# Altium schematic symbol library IC-OPAMP.SCHLIB: 40 symbols
Pins are listed as number, name and electrical type; pins without a type are passive.

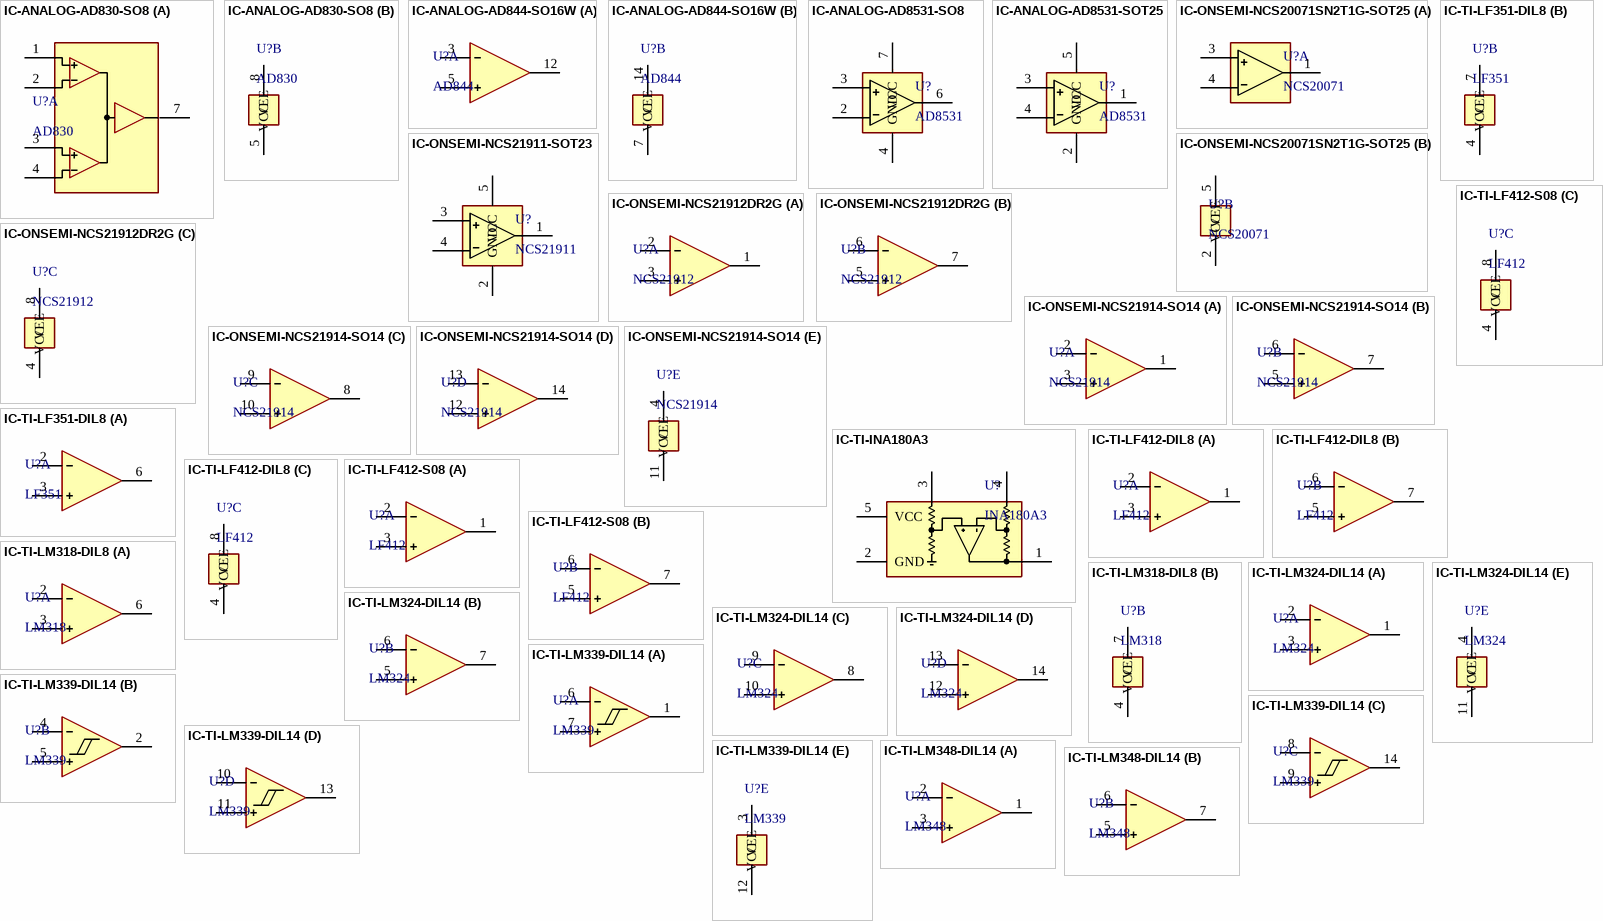
[diagram p0: symbols IC-ANALOG-AD830-SO8 to IC-TI-LM348-DIL14]

## IC-ANALOG-AD830-SO8
designator U?, comment AD830
IC,OPAMP,SINGLE,AD830,SO8; Manufacturer 1: ANALOG DEVICES; Manufacturer Part Number 1: AD844JRZ-16
footprint SO127P600-8N (SO8)
part A pins: 1 -, 2 +, 3 -, 4 +, 7 O
part B pins: 5 VEE, 8 VCC

## IC-ANALOG-AD844-SO16W
designator U?, comment AD844
IC,OPAMP,SINGLE,AD844,SO16W; Manufacturer 1: ANALOG DEVICES; Manufacturer Part Number 1: AD844JRZ-16
footprint SO127P600-8N (SO8)
part A pins: 3 -, 5 +, 12 O
part B pins: 7 VEE, 14 VCC

## IC-ANALOG-AD8531-SO8
designator U?, comment AD8531
footprint SO127P600-8N (SO8)
pins: 2 -, 3 +, 4 GND, 6 OUT, 7 VCC

## IC-ANALOG-AD8531-SOT25
designator U?, comment AD8531
pins: 1 OUT, 2 GND, 3 +, 4 -, 5 VCC

## IC-ONSEMI-NCS20071SN2T1G-SOT25
designator U?, comment NCS20071
IC,OPAMP,SINGLE,ONSEMI,NCS20071SN2T1G,SOT23-5; Manufacturer 1: ONSEMI; Manufacturer Part Number 1: NCS20071SN2T1G
footprint SOT23-5 (SOT23 PACKAGE, 5 PIN (SOT25))
part A pins: 1 OUT, 3 +, 4 -
part B pins: 2 VEE, 5 VCC

## IC-ONSEMI-NCS21911-SOT23
designator U?, comment NCS21911
IC,OPAMP,SINGLE,ZERO DRIFT,NCS21911,SOT23-5
footprint SOT23-5 (SOT23 PACKAGE, 5 PIN (SOT25))
pins: 1 OUT, 2 GND, 3 +, 4 -, 5 VCC

## IC-ONSEMI-NCS21912DR2G
designator U?, comment NCS21912
IC,OPAMP,DUAL,ZERO DRIFT,NCS21912DR2G,SO8; Manufacturer 1: ONSEMI; Manufacturer Part Number 1: NCS21912DR2G
footprint SO127P600-8N (SO8)
part A pins: 1 O, 2 -, 3 +
part B pins: 5 +, 6 -, 7 O
part C pins: 4 VEE, 8 VCC

## IC-ONSEMI-NCS21914-SO14
designator U?, comment NCS21914
IC,OPAMP,QUAD,ZERO DRIFT,NCS21914,SO14; Manufacturer 1: ONSEMI; Manufacturer Part Number 1: NCS21914DR2G
footprint SO127P600-14N (SOIC127P600X175 14N)
part A pins: 1 O, 2 -, 3 +
part B pins: 5 +, 6 -, 7 O
part C pins: 8 O, 9 -, 10 +
part D pins: 12 +, 13 -, 14 O
part E pins: 4 VCC, 11 VEE

## IC-TI-INA180A3
designator U?, comment INA180A3
pins: 1 OUT, 2 GND, 3 INP, 4 INN, 5 VCC

## IC-TI-LF351-DIL8
designator U?, comment LF351
IC,OPAMP,SINGLE,LF351,DIL8
part A pins: 2 -, 3 +, 6 O
part B pins: 4 VEE, 7 VCC

## IC-TI-LF412-DIL8
designator U?, comment LF412
IC,OPAMP JFET,DUAL,LF412,DIL8
part A pins: 1 O, 2 -, 3 +
part B pins: 5 +, 6 -, 7 O
part C pins: 4 VEE, 8 VCC

## IC-TI-LF412-S08
designator U?, comment LF412
IC,OPAMP JFET,DUAL,LF412,SO8
footprint SO127P600-8N (SO8)
part A pins: 1 O, 2 -, 3 +
part B pins: 5 +, 6 -, 7 O
part C pins: 4 VEE, 8 VCC

## IC-TI-LM318-DIL8
designator U?, comment LM318
IC,OPAMP,SINGLE,LM318,DIL8
part A pins: 2 -, 3 +, 6 O
part B pins: 4 VEE, 7 VCC

## IC-TI-LM324-DIL14
designator U?, comment LM324
IC,OPAMP,QUAD,LM324,DIL14
part A pins: 1 O, 2 -, 3 +
part B pins: 5 +, 6 -, 7 O
part C pins: 8 O, 9 -, 10 +
part D pins: 12 +, 13 -, 14 O
part E pins: 4 VCC, 11 VEE

## IC-TI-LM339-DIL14
designator U?, comment LM339
IC,COMPARATOR,QUAD,LM339,DIL14
part A pins: 1 O, 6 -, 7 +
part B pins: 2 O, 4 -, 5 +
part C pins: 8 -, 9 +, 14 O
part D pins: 10 -, 11 +, 13 O
part E pins: 3 VCC, 12 VEE

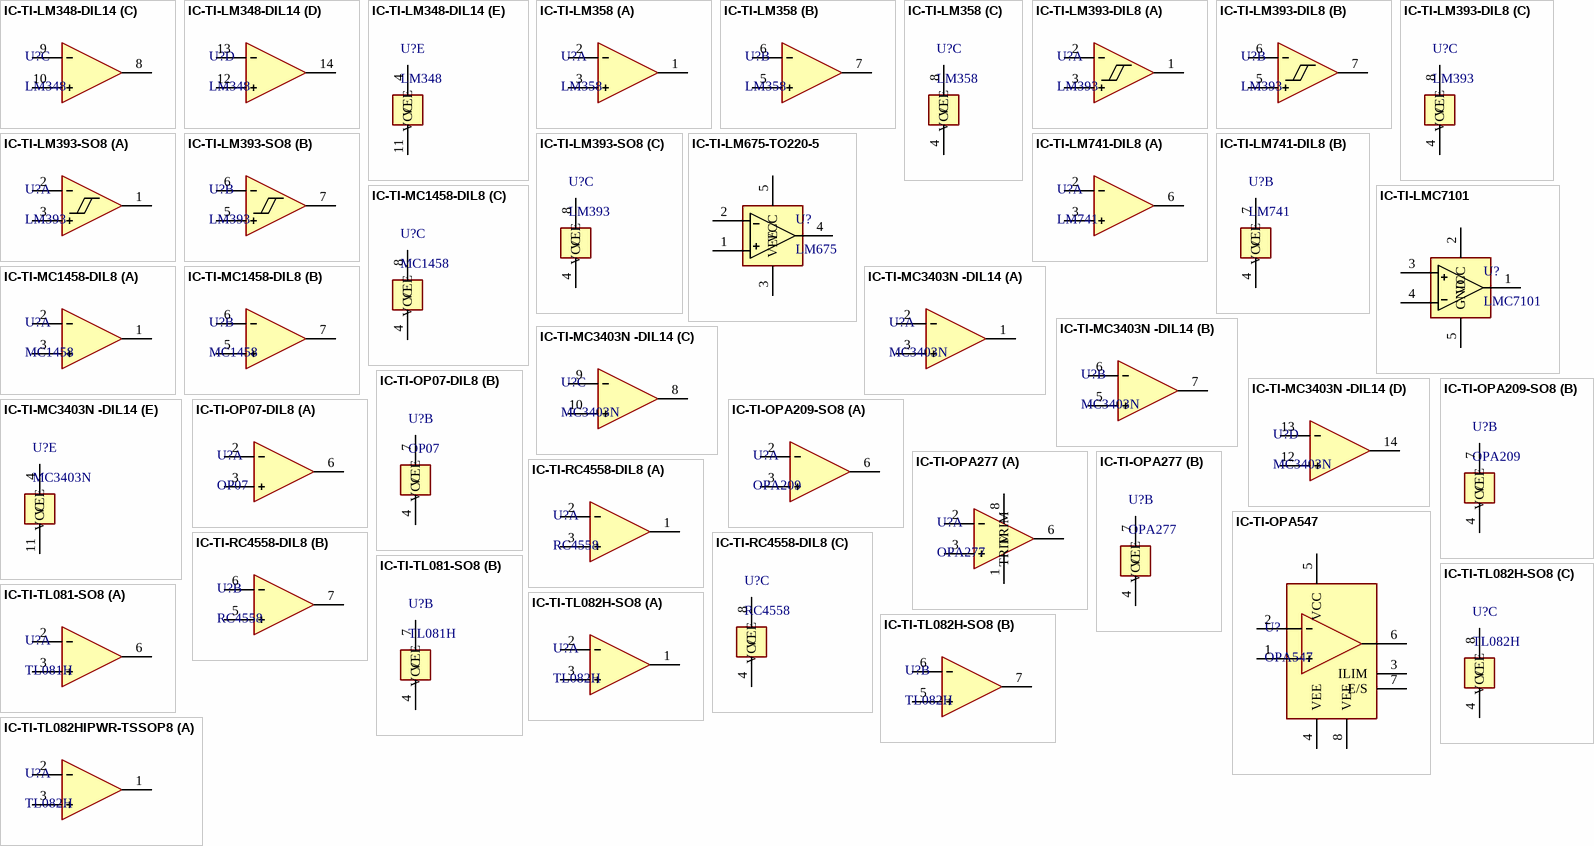
[diagram p1: symbols IC-TI-LM348-DIL14 to IC-TI-TL082HIPWR-TSSOP8]

## IC-TI-LM348-DIL14
designator U?, comment LM348
IC,OPAMP,QUAD,LM348,DIL14
part A pins: 1 O, 2 -, 3 +
part B pins: 5 +, 6 -, 7 O
part C pins: 8 O, 9 -, 10 +
part D pins: 12 +, 13 -, 14 O
part E pins: 4 VCC, 11 VEE

## IC-TI-LM358
designator U?, comment LM358
IC,OPAMP,DUAL,LM358,DIL8
part A pins: 1 O, 2 -, 3 +
part B pins: 5 +, 6 -, 7 O
part C pins: 4 VEE, 8 VCC

## IC-TI-LM393-DIL8
designator U?, comment LM393
IC,COMPARATOR,DUAL,LM393,DIL8
part A pins: 1 O, 2 -, 3 +
part B pins: 5 +, 6 -, 7 O
part C pins: 4 VEE, 8 VCC

## IC-TI-LM393-SO8
designator U?, comment LM393
IC,COMPARATOR,DUAL,LM393,SO8; Manufacturer 1: DIODES-INC; Manufacturer Part Number 1: AS393AMTR-E1; DIGIKEY: AS393AMTR-E1
footprint SO127P600-8N (SO8)
part A pins: 1 O, 2 -, 3 +
part B pins: 5 +, 6 -, 7 O
part C pins: 4 VEE, 8 VCC

## IC-TI-LM675-TO220-5
designator U?, comment LM675
IC,OPAMP,SINGLE,POWER,LM675,TO220-5
footprint TO220-5-V (TO220,PENTAWATT,VERTICAL)
pins: 1 +, 2 -, 3 VEE, 4 OUT, 5 VCC

## IC-TI-LM741-DIL8
designator U?, comment LM741
IC,OPAMP,SINGLE,LM741,DIL8
part A pins: 2 -, 3 +, 6 O
part B pins: 4 VEE, 7 VCC

## IC-TI-LMC7101
designator U?, comment LMC7101
IC,OPAMP,SINGLE,LMC7101,SOT23-5
pins: 1 OUT, 2 VCC, 3 +, 4 -, 5 GND

## IC-TI-MC1458-DIL8
designator U?, comment MC1458
IC,OPAMP,DUAL,MC1458,DIL8
part A pins: 1 O, 2 -, 3 +
part B pins: 5 +, 6 -, 7 O
part C pins: 4 VEE, 8 VCC

## IC-TI-MC3403N -DIL14
designator U?, comment MC3403N
IC,OPAMP,QUAD,MC3403N ,DIL14
part A pins: 1 O, 2 -, 3 +
part B pins: 5 +, 6 -, 7 O
part C pins: 8 O, 9 -, 10 +
part D pins: 12 +, 13 -, 14 O
part E pins: 4 VCC, 11 VEE

## IC-TI-OP07-DIL8
designator U?, comment OP07
IC,OPAMP,SINGLE,OP07,DIL8
part A pins: 2 -, 3 +, 6 O
part B pins: 4 VEE, 7 VCC

## IC-TI-OPA209-SO8
designator U?, comment OPA209
IC,OPAMP,SINGLE,OPA209,SO8
part A pins: 2 -, 3 +, 6 O
part B pins: 4 VEE, 7 VCC

## IC-TI-OPA277
designator U?, comment OPA277
IC,OPAMP,SINGLE,OPA277,SO8
part A pins: 1 TRIM, 2 -, 3 +, 6 O, 8 TRIM
part B pins: 4 VEE, 7 VCC

## IC-TI-OPA547
designator U?, comment OPA547
IC,OPAMP,SINGLE,OPA547,TO263-7
footprint TO263-7
pins: 1 ILIM, 2 -, 3 ILIM, 4 VEE, 5 VCC, 6 O, 7 E/S, 8 VEE

## IC-TI-RC4558-DIL8
designator U?, comment RC4558
IC,OPAMP,DUAL,RC4558,DIL8
part A pins: 1 O, 2 -, 3 +
part B pins: 5 +, 6 -, 7 O
part C pins: 4 VEE, 8 VCC

## IC-TI-TL081-SO8
designator U?, comment TL081H
IC,OPAMP JFET,SINGLE,TL081HIDR,SO8; Manufacturer 1: TI; Manufacturer Part Number 1: TL081HIDR; MOUSER: 595-TL081HIDR
footprint SO127P600-8N (SO8)
part A pins: 2 -, 3 +, 6 O
part B pins: 4 VEE, 7 VCC

## IC-TI-TL082H-SO8
designator U?, comment TL082H
IC,OPAMP JFET,DUAL,TL082HIDR,SO8; Manufacturer 1: TI; Manufacturer Part Number 1: TL082HIDR; MOUSER: 595-TL082HIDR
footprint SO127P600-8N (SO8)
part A pins: 1 O, 2 -, 3 +
part B pins: 5 +, 6 -, 7 O
part C pins: 4 VEE, 8 VCC

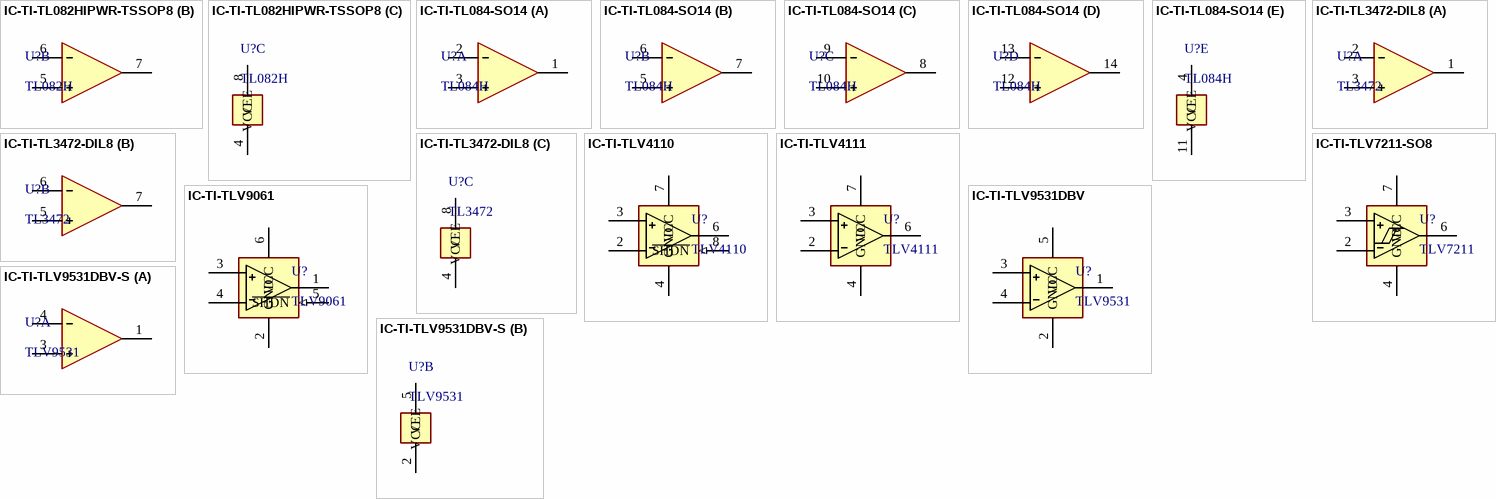
[diagram p2: symbols IC-TI-TL082HIPWR-TSSOP8 to IC-TI-TLV9531DBV-S]

## IC-TI-TL082HIPWR-TSSOP8
designator U?, comment TL082H
IC,OPAMP JFET,DUAL,TL082H,TSSOP8; Manufacturer 1: TI; Manufacturer Part Number 1: TL082HIPWR; DIGIKEY: 296-TL082HIPWRCT-ND
footprint SO65P640-8N (TSOP, 8-LEADS, BODY 3.00X4.40MM, PITCH 0.65MM, IPC MEDIUM DENSITY)
part A pins: 1 O, 2 -, 3 +
part B pins: 5 +, 6 -, 7 O
part C pins: 4 VEE, 8 VCC

## IC-TI-TL084-SO14
designator U?, comment TL084H
IC,OPAMP JFET,QUAD,TL084HIDR,SO14; Manufacturer 1: TI; Manufacturer Part Number 1: TL082HIDR; MOUSER: 595-TL082HIDR
footprint SO127P600-14N (SOIC127P600X175 14N)
part A pins: 1 O, 2 -, 3 +
part B pins: 5 +, 6 -, 7 O
part C pins: 8 O, 9 -, 10 +
part D pins: 12 +, 13 -, 14 O
part E pins: 4 VCC, 11 VEE

## IC-TI-TL3472-DIL8
designator U?, comment TL3472
IC,OPAMP,DUAL,TL3472,DIL8
part A pins: 1 O, 2 -, 3 +
part B pins: 5 +, 6 -, 7 O
part C pins: 4 VEE, 8 VCC

## IC-TI-TLV4110
designator U?, comment TLV4110
pins: 2 -, 3 +, 4 GND, 6 OUT, 7 VCC, 8 ~{SHDN} (in)

## IC-TI-TLV4111
designator U?, comment TLV4111
pins: 2 -, 3 +, 4 GND, 6 OUT, 7 VCC

## IC-TI-TLV7211-SO8
designator U?, comment TLV7211
IC,COMPARATOR,SINGLE,PUSHPULL,TI,TLV7211,SO8; Manufacturer Part Number 1: TLV7211IDR; DIGIKEY: 296-21871-1-ND; Manufacturer 1: TI
footprint SO127P600-8N (SO8)
pins: 2 -, 3 +, 4 GND, 6 OUT, 7 VCC

## IC-TI-TLV9061
designator U?, comment TLV9061
pins: 1 OUT, 2 GND, 3 +, 4 -, 5 ~{SHDN} (in), 6 VCC

## IC-TI-TLV9531DBV
designator U?, comment TLV9531
pins: 1 OUT, 2 GND, 3 +, 4 -, 5 VCC

## IC-TI-TLV9531DBV-S
designator U?, comment TLV9531
part A pins: 1 O, 3 +, 4 -
part B pins: 2 VEE, 5 VCC